# Altium footprint library RF-Cons.PcbLib: 6 footprints
Each footprint in its own frame and in the unit in brackets; x right, y up, seen from the top. Pads: shape width x height; smd on the part's side, far side on the other; paste and mask are expansions set on the pad; w line width, h text height; cw(c..) or ccw(c..) is an arc to the next point about the centre after c.
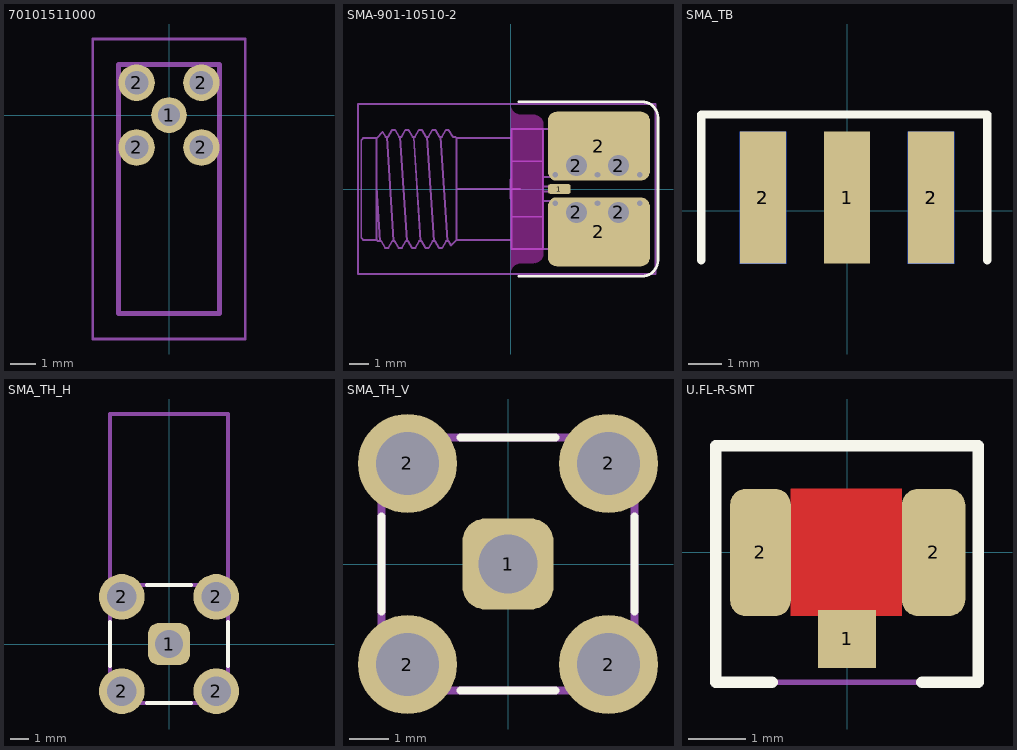
[diagram p0: the footprints below, top view; thin cyan lines are the x and y axes]

## 70101511000 [mm]
pads (5):
  round 1.397 hole 0.86: 1(0,0)
  round 1.431 hole 0.92: 2(-1.27,-1.27) 2(-1.27,1.27) 2(1.27,-1.27) 2(1.27,1.27)
Top 3D Body:
  lines w0.2: -1.98,-7.772 -1.98,1.98 1.98,1.98 1.98,-7.772 -1.98,-7.772
Top Courtyard:
  lines w0.1: -2.98,-8.772 -2.98,2.98 2.98,2.98 2.98,-8.772 -2.98,-8.772
3D body "7010-1511-000R.step": height 5.71, standoff -3.94, extent -1.98,-7.772 1.982,1.982

## SMA-901-10510-2 [mm]
height 5
pads (7):
  rrect50% 1.2x0.5 smd mask+0.05: 1(2.55,0)
  round 1.5 / inner round 2 / far side round 1.85 hole 1.1 mask+0.05: 2(3.45,-1.22) 2(3.45,1.22) 2(5.66,-1.22) 2(5.66,1.22)
  rrect25% 5.35x3.6 smd mask+0.05: 2(4.625,-2.25) 2(4.625,2.25)
via 2.345,-0.75 diameter 0.6 hole 0.3
via 6.765,-0.75 diameter 0.6 hole 0.3
via 4.555,-0.75 diameter 0.6 hole 0.3
via 2.345,0.75 diameter 0.6 hole 0.3
via 6.765,0.75 diameter 0.6 hole 0.3
via 4.555,0.75 diameter 0.6 hole 0.3
Top Overlay:
  lines w0.15: 0.435,-4.575 6.875,-4.575 ccw(c6.875,-3.725) 7.725,-3.725 7.725,3.725 ccw(c6.875,3.725) 6.875,4.575 0.435,4.575
Top Solder:
  pour cut-out: 3.15,0.35 3.15,-0.35 3.45,-0.35 3.45,0.35
Keep-Out Layer:
  board cut-out: 0,0 1.7,0 1.7,-3.4 1.7,-3.499 1.624,-3.683 1.483,-3.824 1.299,-3.9 1.2,-3.9 0.5,-3.9 0.402,-3.91 0.222,-3.984 0.084,-4.122 0.01,-4.302 0,-4.4 0,-3.9
  board cut-out: 0,0 1.7,0 1.7,3.4 1.7,3.499 1.624,3.683 1.483,3.824 1.299,3.9 1.2,3.9 0.5,3.9 0.402,3.91 0.222,3.984 0.084,4.122 0.01,4.302 0,4.4 0,3.9
Top Assembly:
  lines w0.1: -7.028,0.112 -6.846,-2.73 ; -6.787,-2.723 -6.576,-3.089 -6.407,-3.089 -6.2,-2.73 ; -6.783,-2.73 -6.965,-2.73 -7.03,-2.665 ; -6.706,2.989 -7.03,2.665 ; -6.701,2.988 -6.549,2.724 ; -6.553,2.731 -6.427,2.731 ; -6.49,2.731 -6.141,-2.73 ; -6.43,2.731 -6.223,3.089 -6.054,3.089 -5.843,2.724 ; -6.204,-2.73 -6.078,-2.73 ; -6.082,-2.723 -5.87,-3.089 -5.702,-3.089 -5.494,-2.73 ; -5.847,2.731 -5.721,2.731 ; -5.788,2.731 -5.439,-2.73 ; -5.725,2.731 -5.518,3.089 -5.349,3.089 -5.137,2.724 ; -5.498,-2.73 -5.372,-2.73 ; -5.376,-2.724 -5.165,-3.089 -4.996,-3.089 -4.789,-2.73 ; -5.141,2.731 -5.015,2.731 ; -5.078,2.731 -4.729,-2.73 ; -5.019,2.731 -4.812,3.089 -4.643,3.089 -4.432,2.724 ; -4.793,-2.73 -4.667,-2.73 ; -4.671,-2.724 -4.459,-3.089 -4.29,-3.089 -4.083,-2.73 ; -4.436,2.731 -4.31,2.731 ; -4.373,2.731 -4.024,-2.73 ; -4.314,2.731 -4.106,3.089 -3.938,3.089 -3.726,2.724 ; -4.087,-2.73 -3.961,-2.73 ; -3.965,-2.724 -3.754,-3.089 -3.585,-3.089 -3.377,-2.73 ; -3.73,2.731 -3.604,2.731 ; -3.667,2.731 -3.318,-2.73 ; -3.608,2.731 -3.401,3.089 -3.26,3.095 -3.025,2.731 -2.899,2.731 -2.83,2.665 ; -3.381,-2.73 -3.255,-2.73 ; -3.259,-2.723 -3.127,-2.952 ; -3.121,-2.956 -2.83,-2.665 ; 0.049,-2.665 -2.83,-2.665 ; 0.049,-1.457 1.7,-1.457 ; 0.049,0 -2.83,0 ; 0.049,1.457 1.7,1.457 ; 0.049,2.665 -2.83,2.665 ; 1.7,-3.137 1.7,3.137 ; 1.7,-0.635 6.25,-0.635 6.25,-3.137 0.049,-3.137 0.049,3.137 6.25,3.137 6.25,0.635 1.7,0.635 ; 1.7,-0.125 2.335,-0.125 ccw(c2.335,0) 2.46,0 ccw(c2.335,0) 2.335,0.125 1.7,0.125 ; -7.03,-2.665 -7.03,0 -7.03,2.665 ; -7.03,-2.665 -7.73,-2.665 -7.83,-2.565 -7.83,0 -7.83,2.565 -7.73,2.665 -7.03,2.665 ; -2.83,-2.665 -2.83,0 ; -2.83,0 -2.83,2.665
  text ".Designator" at -2.252,3.524 h1
Mechanical 11:
  text ".Comment" at -2.018,3.43 h1
Top Courtyard:
  lines w0.1: -0.5,0 0.5,0 ; 0,-0.5 0,0.5 ; -8,-4.45 7.598,-4.45 7.598,4.45 -8,4.45 -8,-4.45
3D body "SMA_901_10510_2.stp": height 3.22, standoff -2.97, extent -7.83,-3.134 6.25,3.135

## SMA_TB [mm]
pads (5):
  rect 1.4x4 smd mask+0.05: 1(0,0.4) 2(-2.55,0.4) 2(2.55,0.4)
  rect 1.4x4 smd far side mask+0.05: 2(-2.55,0.4) 2(2.55,0.4)
Top Overlay:
  lines w0.254: -4.425,-1.5 -4.425,2.921 4.25,2.921 4.25,-1.5
Bottom Overlay:
  lines w0.254: -4.425,-1.5 -4.425,2.921 4.25,2.921 4.25,-1.5
3D body "SMA_1.x_t": height 5.07, standoff -4.17, extent -4.05,-14.215 3.95,2.025

## SMA_TH_H [mm]
pads (5):
  rrect50% 2.25x2.25 hole 1.5: 1(0,0)
  round 2.45 hole 1.6: 2(-2.54,-2.54) 2(-2.54,2.54) 2(2.54,-2.54) 2(2.54,2.54)
Top Overlay:
  lines w0.2: -3.175,-1.202 -3.175,1.202 ; -1.202,-3.175 1.202,-3.175 ; -1.202,3.175 1.202,3.175 ; 3.175,-1.202 3.175,1.202
Top 3D Body:
  lines w0.2: -3.175,3.175 -3.175,12.375 3.175,12.375 3.175,3.175 ; -3.175,3.175 -3.175,-3.175 3.175,-3.175 3.175,3.175 ; -3.175,3.175 3.175,3.175
3D body "3-1478978-1.stp": height 10.14, standoff -3.36, extent -3.175,-3.11 3.175,12.44

## SMA_TH_V [mm]
pads (5):
  rrect50% 2.3x2.3 hole 1.5: 1(0,0)
  round 2.5 hole 1.6: 2(-2.54,-2.54) 2(-2.54,2.54) 2(2.54,-2.54) 2(2.54,2.54)
Top Overlay:
  lines w0.2: -3.2,-1.2 -3.2,1.2 ; -1.2,-3.2 1.2,-3.2 ; -1.2,3.2 1.2,3.2 ; 3.2,-1.2 3.2,1.2
Top 3D Body:
  lines w0.2: -3.2,-3.2 -3.2,3.2 3.2,3.2 3.2,-3.2 -3.2,-3.2
3D body "5-1814832-1.stp": height 9.5, standoff -4, extent -3.42,-3.432 3.42,3.432

## U.FL-R-SMT [mm] "U.FL SMT connector (Hirose)"
height 1.25
pads (3):
  rect 1x1 smd mask+0.075: 1(0,-1.5)
  rrect50% 1.05x2.2 smd mask+0.075: 2(-1.5,0)
  rrect50% 1.1x2.2 smd mask+0.075: 2(1.5,0)
Top Layer:
  pour cut-out: -0.975,1.1 0.95,1.1 0.95,-1.1 -0.975,-1.1
Top Overlay:
  lines w0.2: -1.3,-2.25 -2.275,-2.25 -2.275,1.85 2.275,1.85 2.275,-2.25 1.3,-2.25
Top Courtyard:
  lines w0.1: -0.3,0 0.3,0 ; 0,-0.3 0,0.3 ; -2.275,-2.25 2.275,-2.25 2.275,0 2.275,1.85 -2.275,1.85 -2.275,0 -2.275,-2.25
3D body "User Library-UFL-R-SMD.STEP": height 1.25, standoff 0, extent -1.7,-1.55 1.7,1.55